# Altium schematic symbol library GRM155R60J475ME47D.SchLib: 2 symbols
Pins are listed as number, name and electrical type; pins without a type are passive.

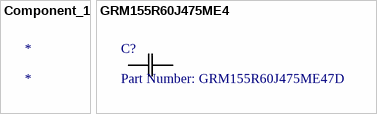
[diagram p0: symbols Component_1 to GRM155R60J475ME4]

## Component_1
designator *

## GRM155R60J475ME4
designator C?, comment Part Number: GRM155R60J475ME47D
No Description Available; Vendor: Murata; Type: DEV; Copyright: Copyright (C) 2015 Accelerated Designs. All rights reserved; Manufacturer_Part_Number: GRM155R60J475ME47D; RefDes: RefDes; Value: Value
footprint G-155
pins: 1, 2